# Altium integrated library New Library.IntLib: 3 symbols
Pins are listed as number, name and electrical type; pins without a type are passive.

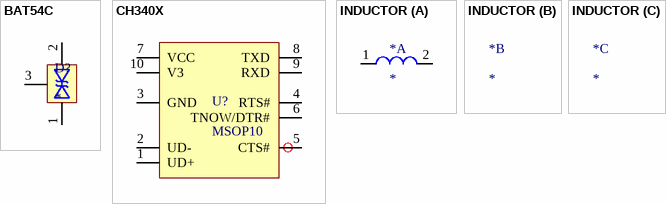
[diagram p0: symbols BAT54C to INDUCTOR]

## BAT54C
designator D?
https://www.alldatasheet.com/datasheet-pdf/view/702788/TSC/BAT54C.html
footprint BAT54C
pins: 1 91, 2, 3

## CH340X
designator U?, comment MSOP10
CH340X - MSOP10
footprint SOP127P600-8N
pins: 1 UD+, 2 UD-, 3 GND, 4 RTS#, 5 CTS#, 6 TNOW/DTR#, 7 VCC, 8 TXD, 9 RXD, 10 V3

## INDUCTOR
designator *
part A pins: 1 4, 2 5